# Altium schematic symbol library Pakage_lib.SchLib: 43 symbols
Pins are listed as number, name and electrical type; pins without a type are passive.

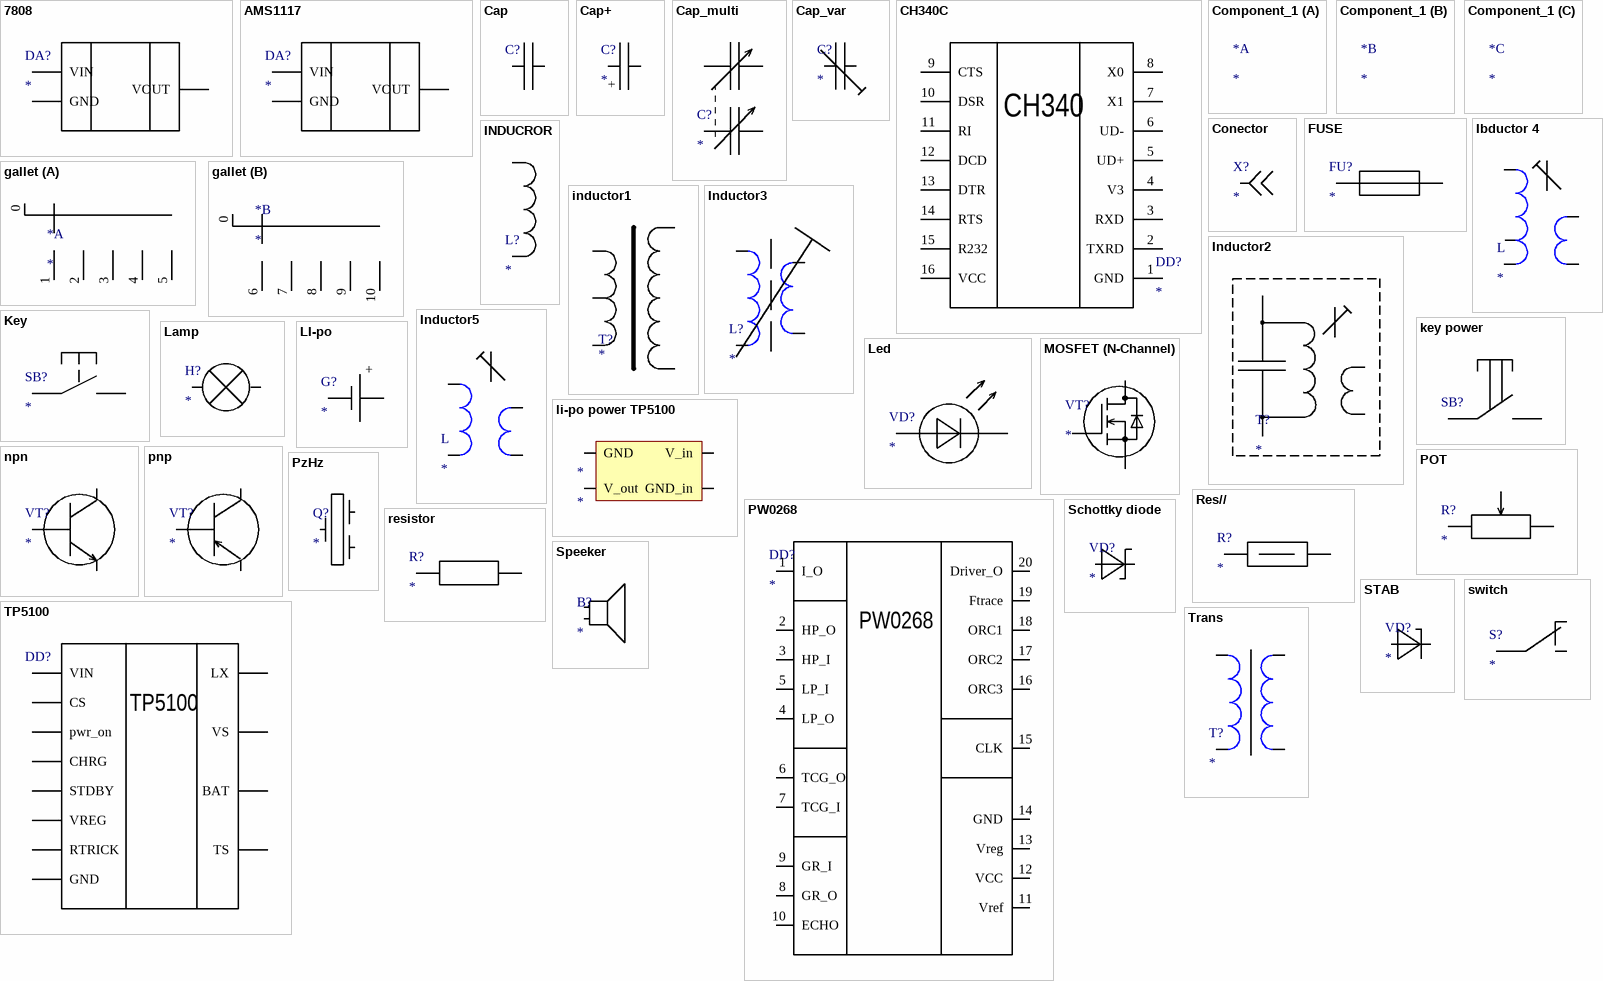
[diagram p0: symbols 7808 to Trans]

## 7808
designator DA?
footprint StabV
pins: 1 GND, 2 VOUT, 3 VIN

## AMS1117
designator DA?
footprint SOT-223
pins: 1 GND, 2 VOUT, 3 VIN

## Cap
designator C?  (value not drawn)
footprint CAP
footprint C0805
footprint C0603
pins: 1, 2

## Cap+
designator C?
footprint CAP+
footprint C_EL_10
footprint C_EL_4
footprint C_EL_5
footprint C_EL_6.3
footprint C_EL_8
footprint CAP AL TH D16 L7.5 H26.5 (16MM Diameter, 7.5MM Lead Spacing Aluminium Capacitor)
footprint CAP AL TH D8 L3.5 H12.5 (8MM Diameter, 3.5MM Lead Spacing Aluminium Capacitor)
footprint CAP_EL 10_17
pins: 1 5, 2
text: +

## Cap_multi
designator C?
footprint Cap_multi
pins: 1 5, 2 5, 3 5, 4 5

## Cap_var
designator C?
footprint Cap_var
footprint CAp-nastroechniy
pins: 1 5, 2

## CH340C
designator DD?
footprint SO-16
pins: 1 GND, 2 TXRD, 3 RXD, 4 V3, 5 UD+, 6 UD-, 7 X1, 8 X0, 9 CTS, 10 DSR, 11 RI, 12 DCD, 13 DTR, 14 RTS, 15 R232, 16 VCC
text: CH340

## Component_1
designator *
footprint SOT-23-8

## Conector
designator X?
footprint Conector
pins: 1 0

## FUSE
designator FU?
footprint Fuse
pins: 42 5, 43 2

## gallet
designator *
footprint gallet
part A pins: 0, 1, 2, 3, 4, 5
part B pins: 0, 6 1, 7 2, 8 3, 9 4, 10 5

## Ibductor 4
designator L
footprint inductor3
pins: 0 5, 1 5, 2 5, 3 5, 4 5

## INDUCROR
designator L?
footprint L2020
pins: 1 5, 2 5

## inductor1
designator T?
footprint inductor1
pins: 1 5, 5, 7 5, 9 5, 14 5

## Inductor2
designator T?
footprint inductor2
pins: 0 5, 1 5, 2, 3

## Inductor3
designator L?
footprint inductor3
pins: 0 5, 2 5, 3 5, 4 5

## Inductor5
designator L
footprint inductor4
pins: 0 5, 2 5, 3 5, 4 5

## Key
designator SB?
footprint Key
footprint SW4*3
pins: 1, 2

## key power
designator SB?  (value not drawn)
footprint NKK MS12ASG13
pins: 1, 2

## Lamp
designator H?
footprint Key
pins: 1 10, 2 9

## Led
designator VD?
footprint LED
footprint D0805
pins: 1, 2 4

## LI-po
designator G?
pins: 1, 2
text: +

## li-po power TP5100
designator *
pins: 1 V_out, 2 GND, 3 GND_in, 4 V_in

## MOSFET (N-Channel)
designator VT?
footprint TO-92
footprint SOT-23-3
pins: 1 12, 2 13, 3 11

## npn
designator VT?
footprint TO-92
footprint KT-27
footprint SOT-23-3
pins: 1 13, 2 12, 3 11

## pnp
designator VT?
footprint TO-92
footprint KT-27
pins: 1 11, 2 13, 3 12

## POT
designator R?
footprint POT
pins: 1 5, 2 5, 3

## PW0268
designator DD?
footprint TSSOP-20
pins: 1 I_O, 2 HP_O, 3 HP_I, 4 LP_O, 5 LP_I, 6 TCG_O, 7 TCG_I, 8 GR_O, 9 GR_I, 10 ECHO, 11 Vref, 12 VCC, 13 Vreg, 14 GND, 15 CLK, 16 ORC3, 17 ORC2, 18 ORC1, 19 Ftrace, 20 Driver_O

## PzHz
designator Q?
footprint PzHz
pins: 1 6, 2 8, 3 7

## Res//
designator R?
footprint RES
pins: 1 5, 2

## resistor
designator R?
footprint RES
footprint R0805
footprint R0603
pins: 1 5, 2

## Schottky diode
designator VD?
footprint DIODE
footprint DO214 (Diode Body 6 x 4 mm (LxW typ))
pins: 1, 2 4

## Speeker
designator B?
footprint J2
pins: 1 14, 2 15

## STAB
designator VD?
footprint DIODE
pins: 1, 2 4

## switch
designator S?
footprint WURTH WS-SLSU 450404015514 (Right angle Slide Switch)
pins: 1, 2, 3 0

## TP5100
designator DD?
footprint QFN-16
pins: 1 VIN, 2 LX, 6 pwr_on, 7 GND, 8 VS, 9 BAT, 10 VREG, 11 TS, 12 RTRICK, 13 CS, 14 STDBY, 15 CHRG

## Trans
designator T?
footprint Trans
pins: 1 5, 2 5, 52 5, 53 5

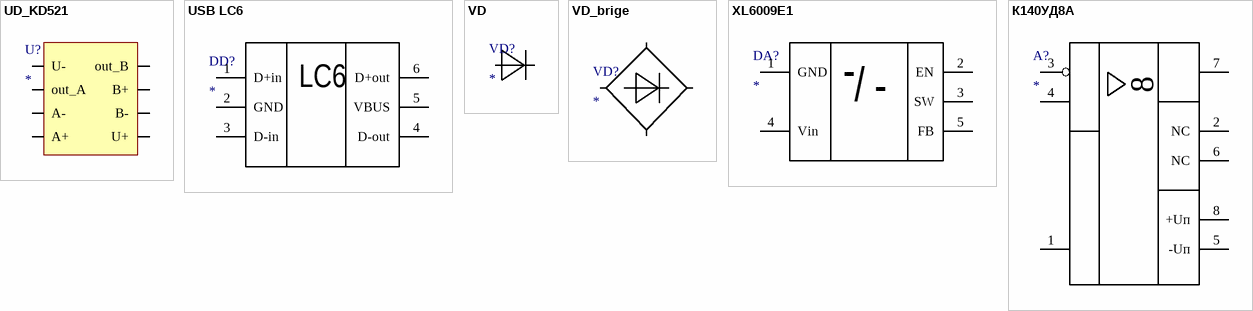
[diagram p1: symbols UD_KD521 to К140УД8А]

## UD_KD521
designator U?
footprint DIP8
pins: 1 U-, 2 out_A, 3 A-, 4 A+, 5 U+, 6 B-, 7 B+, 8 out_B

## USB LC6
designator DD?
footprint SOT-23-6
pins: 1 D+in, 2 GND, 3 D-in, 4 D-out, 5 VBUS, 6 D+out
text: LC6

## VD
designator VD?
footprint DIODE
footprint D0402
footprint SOD-123 (SOD-123 diode package)
pins: 1, 2 4

## VD_brige
designator VD?
footprint VD_brige
pins: 1 3, 2 4, 3 5, 4 2

## XL6009E1
designator DA?
footprint TO-262-5
pins: 1 GND, 2 EN, 3 SW, 4 Vin, 5 FB
text: -; /

## К140УД8А
designator A?
footprint DIP8
pins: 1, 2 NC, 3, 4, 5 -Uп, 6 NC, 7, 8 +Uп